# Altium schematic symbol library Gennum Interface Line Driver.SchLib: 4 symbols
Pins are listed as number, name and electrical type; pins without a type are passive.

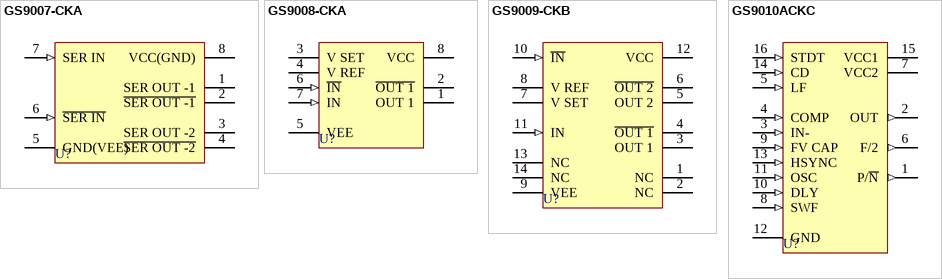
[diagram p0: symbols GS9007-CKA to GS9010ACKC]

## GS9007-CKA
designator U?
Quad Serial Digital Cable Driver; ComponentAvailability: Not for New Design; Published: 8-Jun-2000; LatestRevisionDate: 13-Apr-2006; LatestRevisionNote: IPC-7351 Footprint Added.; DatasheetVersion: May-1995; PackageReference: SOIC8; Publisher: Altium Limited; PackageDescription: 8-Pin Small Outline Integrated Circuit 1.27 mm Pitch; Code_JEDEC: MS-012-AA; Code_IPC: SOIC127P600-8; ComponentLink1Description: Manufacturer Link; ComponentLink1URL: http://www.gennum.com/index.html; ComponentLink2Description: Datasheet; ComponentLink2URL: http://www.gennum.com/vb/pdffiles/52029DOC.pdf
footprint SOIC8_N (SOIC, 8-Leads, Body 4.8x3.9mm, Pitch 1.27mm, IPC Medium Density)
footprint SOIC8_L (SOIC, 8-Leads, Body 4.8x3.9mm, Pitch 1.27mm, IPC High Density)
footprint SOIC8_M (SOIC, 8-Leads, Body 4.8x3.9mm, Pitch 1.27mm, IPC Low Density)
3D model SOIC8 (8-Pin Small Outline Integrated Circuit 1.27 mm Pitch)
pins: 1 SER OUT -1 (oe), 2 ~{SER OUT -1} (oe), 3 SER OUT -2 (oe), 4 ~{SER OUT -2} (oe), 5 GND(VEE) (power), 6 ~{SER IN} (in), 7 SER IN (in), 8 VCC(GND) (power)

## GS9008-CKA
designator U?
Cable Driver with Two Adjustable Outputs; ComponentAvailability: Not for New Design; Published: 8-Jun-2000; LatestRevisionDate: 13-Apr-2006; LatestRevisionNote: IPC-7351 Footprint Added.; DatasheetVersion: Apr-1998; PackageReference: SOIC8; Publisher: Altium Limited; PackageDescription: 8-Pin Small Outline Integrated Circuit 1.27 mm Pitch; Code_JEDEC: MS-012-AA; Code_IPC: SOIC127P600-8; ComponentLink1Description: Manufacturer Link; ComponentLink1URL: http://www.gennum.com/index.html; ComponentLink2Description: Datasheet; ComponentLink2URL: http://www.gennum.com/vb/pdffiles/29781DOC.pdf
footprint SOIC8_N (SOIC, 8-Leads, Body 4.8x3.9mm, Pitch 1.27mm, IPC Medium Density)
footprint SOIC8_L (SOIC, 8-Leads, Body 4.8x3.9mm, Pitch 1.27mm, IPC High Density)
footprint SOIC8_M (SOIC, 8-Leads, Body 4.8x3.9mm, Pitch 1.27mm, IPC Low Density)
3D model SOIC8 (8-Pin Small Outline Integrated Circuit 1.27 mm Pitch)
pins: 1 OUT 1 (oe), 2 ~{OUT 1} (oe), 3 V SET, 4 V REF, 5 VEE (power), 6 ~{IN} (in), 7 IN (in), 8 VCC (power)

## GS9009-CKB
designator U?
Cable Driver with Four Adjustable Outputs; ComponentAvailability: Not for New Design; Published: 8-Jun-2000; LatestRevisionDate: 13-Apr-2006; LatestRevisionNote: IPC-7351 Footprint Added.; DatasheetVersion: Jan-1994; PackageReference: SOIC14; Publisher: Altium Limited; PackageDescription: 14-Pin Small Outline Integrated Circuit 1.27 mm Pitch; Code_JEDEC: MS-012-AB; Code_IPC: SOIC127P600-14; ComponentLink1Description: Manufacturer Link; ComponentLink1URL: http://www.gennum.com/index.html; ComponentLink2Description: Datasheet; ComponentLink2URL: http://www.gennum.com/vb/pdffiles/29782DOC.pdf
footprint SOIC14_N (SOIC, 14-Leads, Body 8.7x3.9mm, Pitch 1.27mm, IPC Medium Density)
footprint SOIC14_L (SOIC, 14-Leads, Body 8.7x3.9mm, Pitch 1.27mm, IPC High Density)
footprint SOIC14_M (SOIC, 14-Leads, Body 8.7x3.9mm, Pitch 1.27mm, IPC Low Density)
3D model SOIC14 (14-Pin Small Outline Integrated Circuit 1.27 mm Pitch)
pins: 1 NC, 2 NC, 3 OUT 1 (oe), 4 ~{OUT 1} (oe), 5 OUT 2 (oe), 6 ~{OUT 2} (oe), 7 V SET, 8 V REF, 9 VEE (power), 10 ~{IN} (in), 11 IN (in), 12 VCC (power), 13 NC, 14 NC

## GS9010ACKC
designator U?
Serial Digital Automatic Tuning Subsystem; ComponentAvailability: Not for New Design; Published: 8-Jun-2000; LatestRevisionDate: 13-Apr-2006; LatestRevisionNote: IPC-7351 Footprint Added.; DatasheetVersion: Aug-1997; PackageReference: SOIC16; Publisher: Altium Limited; PackageDescription: 16-Pin Small Outline Integrated Circuit 1.27 mm Pitch; Code_JEDEC: MS-012-AC; Code_IPC: SOIC127P600-16; ComponentLink1Description: Manufacturer Link; ComponentLink1URL: http://www.gennum.com/index.html; ComponentLink2Description: Datasheet; ComponentLink2URL: http://www.gennum.com/vb/pdffiles/52101DOC.pdf
footprint SOIC16_N (SOIC, 16-Leads, Body 9.9x3.9mm, Pitch 1.27mm, IPC Medium Density)
footprint SOIC16_L (SOIC, 16-Leads, Body 9.9x3.9mm, Pitch 1.27mm, IPC High Density)
footprint SOIC16_M (SOIC, 16-Leads, Body 9.9x3.9mm, Pitch 1.27mm, IPC Low Density)
3D model SOIC16 (16-Pin Small Outline Integrated Circuit 1.27 mm Pitch)
pins: 1 P/~{N} (out), 2 OUT (out), 3 IN- (in), 4 COMP (in), 5 LF (in), 6 F/2 (out), 7 VCC2 (power), 8 SWF (in), 9 FV CAP (in), 10 DLY (in), 11 OSC (in), 12 GND (power), 13 HSYNC (in), 14 CD (in), 15 VCC1 (power), 16 STDT (in)